# Altium schematic symbol library kmilo17pet-NSC_Switcher.SchLib: 2226 symbols (part 12 of 59)
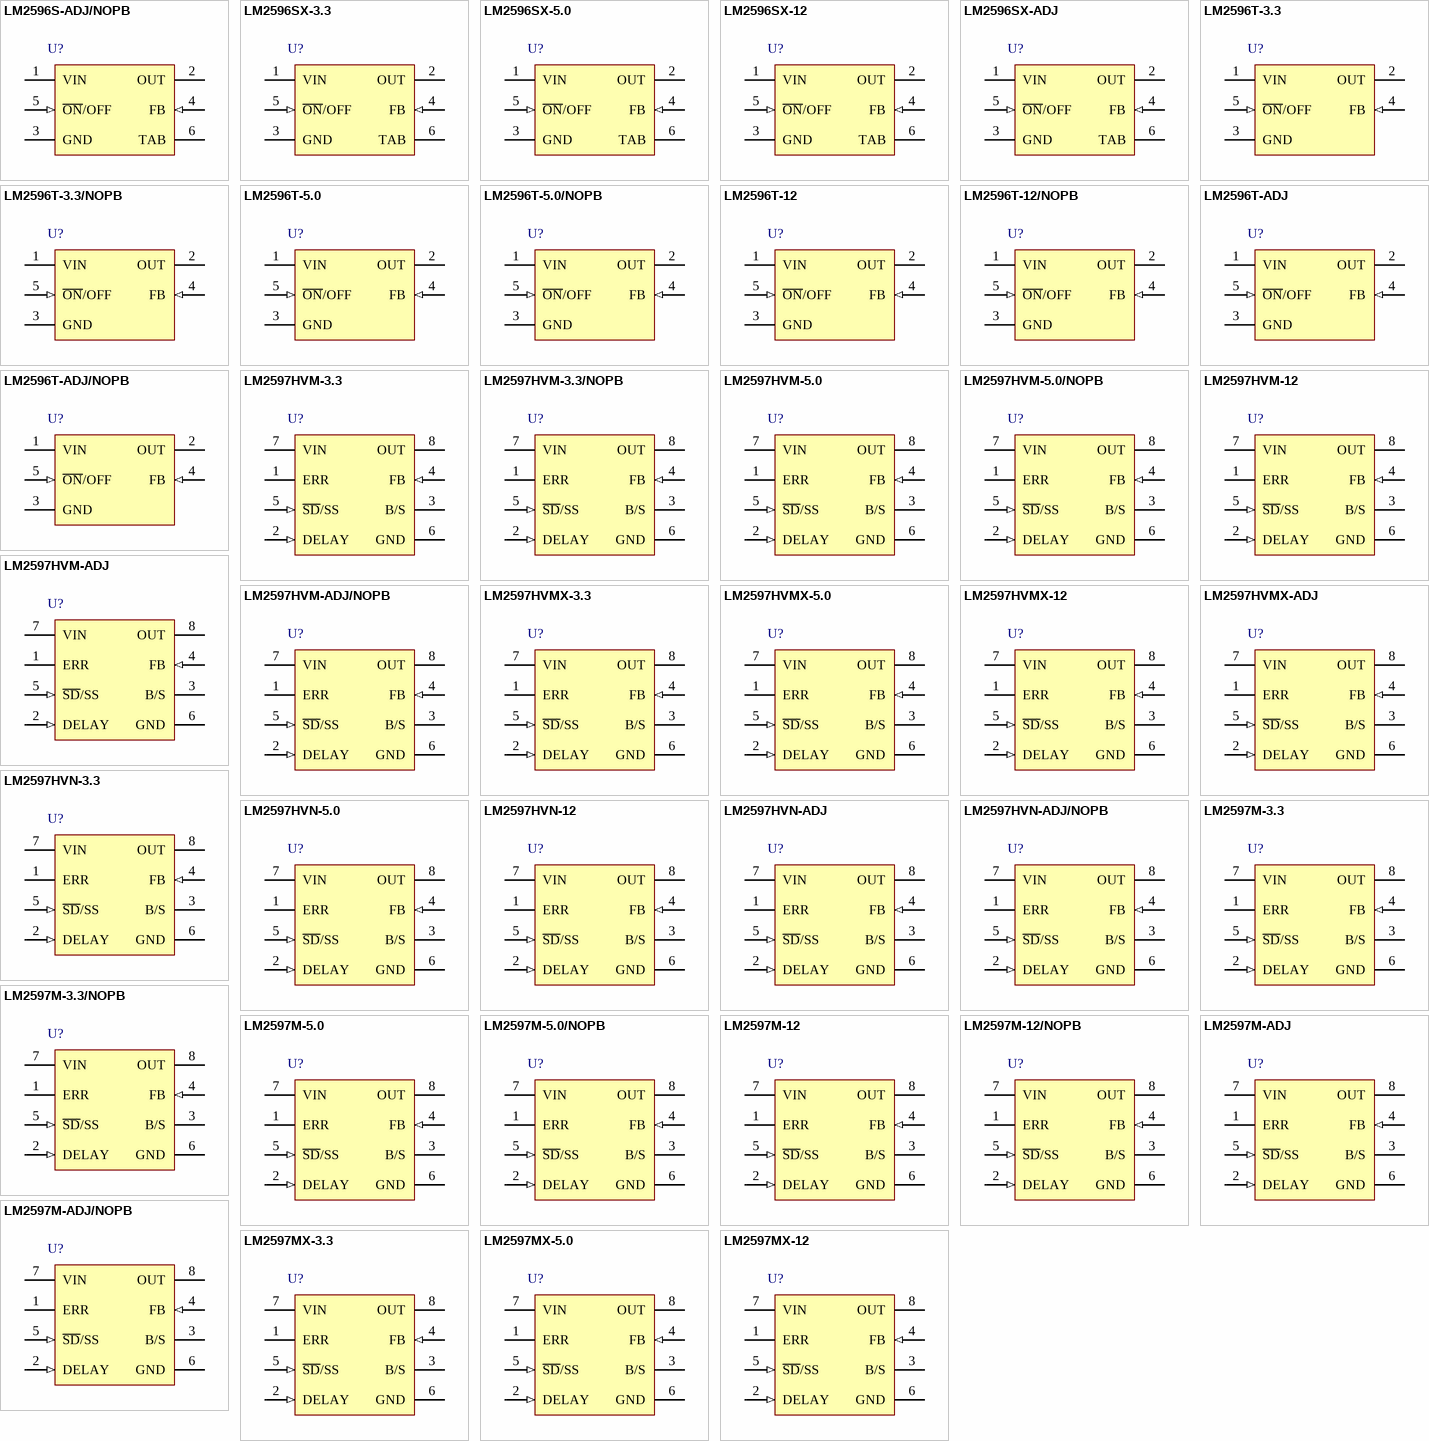
[diagram p80: symbols LM2596S-ADJ/NOPB to LM2597MX-12]

## LM2596SX-5.0
designator U?
SIMPLE SWITCHER® Power Converter 150 KHz 3A Step-Down Voltage Regulator, 5-pin TO-263; PartNumber: LM2596SX-5.0; Manufacturer: National Semiconductor; PackageTopMarking: NSUZXYTTE#*LM2596S*-5.0 P+; PowerWise: N; High-Reliability: Y; DatasheetVersion: May-2002; PackageVersion: revD, Apr-2005; PackageReference: TS5B; PackageDescription: TO-263, Molded, .400 x .390 x .180in, 5 Lead, .067in Pitch, Surface Mount; RoHS: N; PinCount: 5; CompType: Switcher; Code_JEDEC: MO-169-AB; ComponentLink1Description: Manufacturer URL; ComponentLink1URL: http://www.national.com/; ComponentLink2Description: LM2596 Datasheet; ComponentLink2URL: http://www.national.com/ds/LM/LM2596.pdf; ComponentLink3Description: LM2596 Web Page; ComponentLink3URL: http://www.national.com/pf/LM/LM2596.html; ComponentLink4Description: TS5B Package Page; ComponentLink4URL: http://www.national.com/packaging/folders/ts5b.html
footprint TS5B_N (D2-PAK, 6-Leads, Body 8.6x10.2mm, Pitch 1.7mm, Lead Span 14.1mm, IPC Medium Density)
footprint TS5B_L (D2-PAK, 6-Leads, Body 8.6x10.2mm, Pitch 1.7mm, Lead Span 14.1mm, IPC High Density)
footprint TS5B_M (D2-PAK, 6-Leads, Body 8.6x10.2mm, Pitch 1.7mm, Lead Span 14.1mm, IPC Low Density)
pins: 1 VIN (power), 2 OUT (power), 3 GND (power), 4 FB (in), 5 ~{ON}/OFF (in), 6 TAB (power)

## LM2596SX-12
designator U?
SIMPLE SWITCHER® Power Converter 150 KHz 3A Step-Down Voltage Regulator, 5-pin TO-263; PartNumber: LM2596SX-12; Manufacturer: National Semiconductor; PackageTopMarking: NSUZXYTTE#*LM2596S*-12 P+; PowerWise: N; High-Reliability: Y; DatasheetVersion: May-2002; PackageVersion: revD, Apr-2005; PackageReference: TS5B; PackageDescription: TO-263, Molded, .400 x .390 x .180in, 5 Lead, .067in Pitch, Surface Mount; RoHS: N; PinCount: 5; CompType: Switcher; Code_JEDEC: MO-169-AB; ComponentLink1Description: Manufacturer URL; ComponentLink1URL: http://www.national.com/; ComponentLink2Description: LM2596 Datasheet; ComponentLink2URL: http://www.national.com/ds/LM/LM2596.pdf; ComponentLink3Description: LM2596 Web Page; ComponentLink3URL: http://www.national.com/pf/LM/LM2596.html; ComponentLink4Description: TS5B Package Page; ComponentLink4URL: http://www.national.com/packaging/folders/ts5b.html
footprint TS5B_N (D2-PAK, 6-Leads, Body 8.6x10.2mm, Pitch 1.7mm, Lead Span 14.1mm, IPC Medium Density)
footprint TS5B_L (D2-PAK, 6-Leads, Body 8.6x10.2mm, Pitch 1.7mm, Lead Span 14.1mm, IPC High Density)
footprint TS5B_M (D2-PAK, 6-Leads, Body 8.6x10.2mm, Pitch 1.7mm, Lead Span 14.1mm, IPC Low Density)
pins: 1 VIN (power), 2 OUT (power), 3 GND (power), 4 FB (in), 5 ~{ON}/OFF (in), 6 TAB (power)

## LM2596SX-ADJ
designator U?
SIMPLE SWITCHER® Power Converter 150 KHz 3A Step-Down Voltage Regulator, 5-pin TO-263; PartNumber: LM2596SX-ADJ; Manufacturer: National Semiconductor; PackageTopMarking: NSUZXYTTE#*LM2596S*-ADJ P+; PowerWise: N; High-Reliability: Y; DatasheetVersion: May-2002; PackageVersion: revD, Apr-2005; PackageReference: TS5B; PackageDescription: TO-263, Molded, .400 x .390 x .180in, 5 Lead, .067in Pitch, Surface Mount; RoHS: N; PinCount: 5; CompType: Switcher; Code_JEDEC: MO-169-AB; ComponentLink1Description: Manufacturer URL; ComponentLink1URL: http://www.national.com/; ComponentLink2Description: LM2596 Datasheet; ComponentLink2URL: http://www.national.com/ds/LM/LM2596.pdf; ComponentLink3Description: LM2596 Web Page; ComponentLink3URL: http://www.national.com/pf/LM/LM2596.html; ComponentLink4Description: TS5B Package Page; ComponentLink4URL: http://www.national.com/packaging/folders/ts5b.html
footprint TS5B_N (D2-PAK, 6-Leads, Body 8.6x10.2mm, Pitch 1.7mm, Lead Span 14.1mm, IPC Medium Density)
footprint TS5B_L (D2-PAK, 6-Leads, Body 8.6x10.2mm, Pitch 1.7mm, Lead Span 14.1mm, IPC High Density)
footprint TS5B_M (D2-PAK, 6-Leads, Body 8.6x10.2mm, Pitch 1.7mm, Lead Span 14.1mm, IPC Low Density)
pins: 1 VIN (power), 2 OUT (power), 3 GND (power), 4 FB (in), 5 ~{ON}/OFF (in), 6 TAB (power)

## LM2596T-3.3
designator U?
SIMPLE SWITCHER® Power Converter 150 KHz 3A Step-Down Voltage Regulator, 5-pin TO-220; PartNumber: LM2596T-3.3; Manufacturer: National Semiconductor; PackageTopMarking: NSUZXYTTE#*LM2596T*-3.3 P+; PowerWise: N; High-Reliability: Y; DatasheetVersion: May-2002; PackageVersion: revA, Oct-1989; PackageReference: T05D; PackageDescription: TO-220, Molded, Stagger Bend, 5 Lead; RoHS: N; PinCount: 5; CompType: Switcher; ComponentLink1Description: Manufacturer URL; ComponentLink1URL: http://www.national.com/; ComponentLink2Description: LM2596 Datasheet; ComponentLink2URL: http://www.national.com/ds/LM/LM2596.pdf; ComponentLink3Description: LM2596 Web Page; ComponentLink3URL: http://www.national.com/pf/LM/LM2596.html; ComponentLink4Description: T05D Package Page; ComponentLink4URL: http://www.national.com/packaging/folders/t05d.html
footprint T05D (TO, Thru-Hole, Vertical, Heatsink Mounted; 5 Bent Staggered Leads; Body 10.3x8.6x4.6mm, Pitch 1.7 mm)
pins: 1 VIN (power), 2 OUT (power), 3 GND (power), 4 FB (in), 5 ~{ON}/OFF (in)

## LM2596T-3.3/NOPB
designator U?
SIMPLE SWITCHER® Power Converter 150 KHz 3A Step-Down Voltage Regulator, 5-pin TO-220, Pb-Free; PartNumber: LM2596T-3.3/NOPB; Manufacturer: National Semiconductor; PackageTopMarking: NSUZXYTTE#*LM2596T*-3.3 P+; PowerWise: N; High-Reliability: Y; DatasheetVersion: May-2002; PackageVersion: revA, Oct-1989; PackageReference: T05D; PackageDescription: TO-220, Molded, Stagger Bend, 5 Lead; RoHS: Y; PinCount: 5; CompType: Switcher; ComponentLink1Description: Manufacturer URL; ComponentLink1URL: http://www.national.com/; ComponentLink2Description: LM2596 Datasheet; ComponentLink2URL: http://www.national.com/ds/LM/LM2596.pdf; ComponentLink3Description: LM2596 Web Page; ComponentLink3URL: http://www.national.com/pf/LM/LM2596.html; ComponentLink4Description: T05D Package Page; ComponentLink4URL: http://www.national.com/packaging/folders/t05d.html
footprint T05D (TO, Thru-Hole, Vertical, Heatsink Mounted; 5 Bent Staggered Leads; Body 10.3x8.6x4.6mm, Pitch 1.7 mm)
pins: 1 VIN (power), 2 OUT (power), 3 GND (power), 4 FB (in), 5 ~{ON}/OFF (in)

## LM2596T-5.0
designator U?
SIMPLE SWITCHER® Power Converter 150 KHz 3A Step-Down Voltage Regulator, 5-pin TO-220; PartNumber: LM2596T-5.0; Manufacturer: National Semiconductor; PackageTopMarking: NSUZXYTTE#*LM2596T*-5.0 P+; PowerWise: N; High-Reliability: Y; DatasheetVersion: May-2002; PackageVersion: revA, Oct-1989; PackageReference: T05D; PackageDescription: TO-220, Molded, Stagger Bend, 5 Lead; RoHS: N; PinCount: 5; CompType: Switcher; ComponentLink1Description: Manufacturer URL; ComponentLink1URL: http://www.national.com/; ComponentLink2Description: LM2596 Datasheet; ComponentLink2URL: http://www.national.com/ds/LM/LM2596.pdf; ComponentLink3Description: LM2596 Web Page; ComponentLink3URL: http://www.national.com/pf/LM/LM2596.html; ComponentLink4Description: T05D Package Page; ComponentLink4URL: http://www.national.com/packaging/folders/t05d.html
footprint T05D (TO, Thru-Hole, Vertical, Heatsink Mounted; 5 Bent Staggered Leads; Body 10.3x8.6x4.6mm, Pitch 1.7 mm)
pins: 1 VIN (power), 2 OUT (power), 3 GND (power), 4 FB (in), 5 ~{ON}/OFF (in)

## LM2596T-5.0/NOPB
designator U?
SIMPLE SWITCHER® Power Converter 150 KHz 3A Step-Down Voltage Regulator, 5-pin TO-220, Pb-Free; PartNumber: LM2596T-5.0/NOPB; Manufacturer: National Semiconductor; PackageTopMarking: NSUZXYTTE#*LM2596T*-5.0 P+; PowerWise: N; High-Reliability: Y; DatasheetVersion: May-2002; PackageVersion: revA, Oct-1989; PackageReference: T05D; PackageDescription: TO-220, Molded, Stagger Bend, 5 Lead; RoHS: Y; PinCount: 5; CompType: Switcher; ComponentLink1Description: Manufacturer URL; ComponentLink1URL: http://www.national.com/; ComponentLink2Description: LM2596 Datasheet; ComponentLink2URL: http://www.national.com/ds/LM/LM2596.pdf; ComponentLink3Description: LM2596 Web Page; ComponentLink3URL: http://www.national.com/pf/LM/LM2596.html; ComponentLink4Description: T05D Package Page; ComponentLink4URL: http://www.national.com/packaging/folders/t05d.html
footprint T05D (TO, Thru-Hole, Vertical, Heatsink Mounted; 5 Bent Staggered Leads; Body 10.3x8.6x4.6mm, Pitch 1.7 mm)
pins: 1 VIN (power), 2 OUT (power), 3 GND (power), 4 FB (in), 5 ~{ON}/OFF (in)

## LM2596T-12
designator U?
SIMPLE SWITCHER® Power Converter 150 KHz 3A Step-Down Voltage Regulator, 5-pin TO-220; PartNumber: LM2596T-12; Manufacturer: National Semiconductor; PackageTopMarking: NSUZXYTTE#*LM2596T*-12 P+; PowerWise: N; High-Reliability: Y; DatasheetVersion: May-2002; PackageVersion: revA, Oct-1989; PackageReference: T05D; PackageDescription: TO-220, Molded, Stagger Bend, 5 Lead; RoHS: N; PinCount: 5; CompType: Switcher; ComponentLink1Description: Manufacturer URL; ComponentLink1URL: http://www.national.com/; ComponentLink2Description: LM2596 Datasheet; ComponentLink2URL: http://www.national.com/ds/LM/LM2596.pdf; ComponentLink3Description: LM2596 Web Page; ComponentLink3URL: http://www.national.com/pf/LM/LM2596.html; ComponentLink4Description: T05D Package Page; ComponentLink4URL: http://www.national.com/packaging/folders/t05d.html
footprint T05D (TO, Thru-Hole, Vertical, Heatsink Mounted; 5 Bent Staggered Leads; Body 10.3x8.6x4.6mm, Pitch 1.7 mm)
pins: 1 VIN (power), 2 OUT (power), 3 GND (power), 4 FB (in), 5 ~{ON}/OFF (in)

## LM2596T-12/NOPB
designator U?
SIMPLE SWITCHER® Power Converter 150 KHz 3A Step-Down Voltage Regulator, 5-pin TO-220, Pb-Free; PartNumber: LM2596T-12/NOPB; Manufacturer: National Semiconductor; PackageTopMarking: NSUZXYTTE#*LM2596T*-12 P+; PowerWise: N; High-Reliability: Y; DatasheetVersion: May-2002; PackageVersion: revA, Oct-1989; PackageReference: T05D; PackageDescription: TO-220, Molded, Stagger Bend, 5 Lead; RoHS: Y; PinCount: 5; CompType: Switcher; ComponentLink1Description: Manufacturer URL; ComponentLink1URL: http://www.national.com/; ComponentLink2Description: LM2596 Datasheet; ComponentLink2URL: http://www.national.com/ds/LM/LM2596.pdf; ComponentLink3Description: LM2596 Web Page; ComponentLink3URL: http://www.national.com/pf/LM/LM2596.html; ComponentLink4Description: T05D Package Page; ComponentLink4URL: http://www.national.com/packaging/folders/t05d.html
footprint T05D (TO, Thru-Hole, Vertical, Heatsink Mounted; 5 Bent Staggered Leads; Body 10.3x8.6x4.6mm, Pitch 1.7 mm)
pins: 1 VIN (power), 2 OUT (power), 3 GND (power), 4 FB (in), 5 ~{ON}/OFF (in)

## LM2596T-ADJ
designator U?
SIMPLE SWITCHER® Power Converter 150 KHz 3A Step-Down Voltage Regulator, 5-pin TO-220; PartNumber: LM2596T-ADJ; Manufacturer: National Semiconductor; PackageTopMarking: NSUZXYTTE#*LM2596T*-ADJ P+; PowerWise: N; High-Reliability: Y; DatasheetVersion: May-2002; PackageVersion: revA, Oct-1989; PackageReference: T05D; PackageDescription: TO-220, Molded, Stagger Bend, 5 Lead; RoHS: N; PinCount: 5; CompType: Switcher; ComponentLink1Description: Manufacturer URL; ComponentLink1URL: http://www.national.com/; ComponentLink2Description: LM2596 Datasheet; ComponentLink2URL: http://www.national.com/ds/LM/LM2596.pdf; ComponentLink3Description: LM2596 Web Page; ComponentLink3URL: http://www.national.com/pf/LM/LM2596.html; ComponentLink4Description: T05D Package Page; ComponentLink4URL: http://www.national.com/packaging/folders/t05d.html
footprint T05D (TO, Thru-Hole, Vertical, Heatsink Mounted; 5 Bent Staggered Leads; Body 10.3x8.6x4.6mm, Pitch 1.7 mm)
pins: 1 VIN (power), 2 OUT (power), 3 GND (power), 4 FB (in), 5 ~{ON}/OFF (in)

## LM2596T-ADJ/NOPB
designator U?
SIMPLE SWITCHER® Power Converter 150 KHz 3A Step-Down Voltage Regulator, 5-pin TO-220, Pb-Free; PartNumber: LM2596T-ADJ/NOPB; Manufacturer: National Semiconductor; PackageTopMarking: NSUZXYTTE#*LM2596T*-ADJ P+; PowerWise: N; High-Reliability: Y; DatasheetVersion: May-2002; PackageVersion: revA, Oct-1989; PackageReference: T05D; PackageDescription: TO-220, Molded, Stagger Bend, 5 Lead; RoHS: Y; PinCount: 5; CompType: Switcher; ComponentLink1Description: Manufacturer URL; ComponentLink1URL: http://www.national.com/; ComponentLink2Description: LM2596 Datasheet; ComponentLink2URL: http://www.national.com/ds/LM/LM2596.pdf; ComponentLink3Description: LM2596 Web Page; ComponentLink3URL: http://www.national.com/pf/LM/LM2596.html; ComponentLink4Description: T05D Package Page; ComponentLink4URL: http://www.national.com/packaging/folders/t05d.html
footprint T05D (TO, Thru-Hole, Vertical, Heatsink Mounted; 5 Bent Staggered Leads; Body 10.3x8.6x4.6mm, Pitch 1.7 mm)
pins: 1 VIN (power), 2 OUT (power), 3 GND (power), 4 FB (in), 5 ~{ON}/OFF (in)

## LM2597HVM-3.3
designator U?
SIMPLE SWITCHER® Power Converter 150 kHz 0.5A Step-Down Voltage Regulator with Features, 8-pin Narrow SOIC; PartNumber: LM2597HVM-3.3; Manufacturer: National Semiconductor; PackageTopMarking: NSZXTT*2597H*M-3.3; PowerWise: N; High-Reliability: Y; DatasheetVersion: Dec-2000; PackageVersion: revM, May-2009; PackageReference: M08A; PackageDescription: SOIC Narrow, 4.9 x 3.9 x 1.45mm, 8 Lead, 1.27mm Pitch; RoHS: N; PinCount: 8; CompType: Switcher; Code_JEDEC: MS-012-AA; Code_IPC: SOIC127P600-8; ComponentLink1Description: Manufacturer URL; ComponentLink1URL: http://www.national.com/; ComponentLink2Description: LM2597HV Datasheet; ComponentLink2URL: http://www.national.com/ds/LM/LM2597HV.pdf; ComponentLink3Description: LM2597HV Web Page; ComponentLink3URL: http://www.national.com/pf/LM/LM2597HV.html; ComponentLink4Description: M08A Package Page; ComponentLink4URL: http://www.national.com/packaging/folders/m08a.html
footprint M08A_N (SOIC, 8-Leads, Body 4.9x3.9mm, Pitch 1.27mm, IPC Medium Density)
footprint M08A_L (SOIC, 8-Leads, Body 4.9x3.9mm, Pitch 1.27mm, IPC High Density)
footprint M08A_M (SOIC, 8-Leads, Body 4.9x3.9mm, Pitch 1.27mm, IPC Low Density)
pins: 1 ERR (oc), 2 DELAY (in), 3 B/S (power), 4 FB (in), 5 ~{SD}/SS (in), 6 GND (power), 7 VIN (power), 8 OUT (power)

## LM2597HVM-3.3/NOPB
designator U?
SIMPLE SWITCHER® Power Converter 150 kHz 0.5A Step-Down Voltage Regulator with Features, 8-pin Narrow SOIC, Pb-Free; PartNumber: LM2597HVM-3.3/NOPB; Manufacturer: National Semiconductor; PackageTopMarking: NSZXTT*2597H*M-3.3; PowerWise: N; High-Reliability: Y; DatasheetVersion: Dec-2000; PackageVersion: revM, May-2009; PackageReference: M08A; PackageDescription: SOIC Narrow, 4.9 x 3.9 x 1.45mm, 8 Lead, 1.27mm Pitch; RoHS: Y; PinCount: 8; CompType: Switcher; Code_JEDEC: MS-012-AA; Code_IPC: SOIC127P600-8; ComponentLink1Description: Manufacturer URL; ComponentLink1URL: http://www.national.com/; ComponentLink2Description: LM2597HV Datasheet; ComponentLink2URL: http://www.national.com/ds/LM/LM2597HV.pdf; ComponentLink3Description: LM2597HV Web Page; ComponentLink3URL: http://www.national.com/pf/LM/LM2597HV.html; ComponentLink4Description: M08A Package Page; ComponentLink4URL: http://www.national.com/packaging/folders/m08a.html
footprint M08A_N (SOIC, 8-Leads, Body 4.9x3.9mm, Pitch 1.27mm, IPC Medium Density)
footprint M08A_L (SOIC, 8-Leads, Body 4.9x3.9mm, Pitch 1.27mm, IPC High Density)
footprint M08A_M (SOIC, 8-Leads, Body 4.9x3.9mm, Pitch 1.27mm, IPC Low Density)
pins: 1 ERR (oc), 2 DELAY (in), 3 B/S (power), 4 FB (in), 5 ~{SD}/SS (in), 6 GND (power), 7 VIN (power), 8 OUT (power)

## LM2597HVM-5.0
designator U?
SIMPLE SWITCHER® Power Converter 150 kHz 0.5A Step-Down Voltage Regulator with Features, 8-pin Narrow SOIC; PartNumber: LM2597HVM-5.0; Manufacturer: National Semiconductor; PackageTopMarking: NSZXTT*2597H*M-5.0; PowerWise: N; High-Reliability: Y; DatasheetVersion: Dec-2000; PackageVersion: revM, May-2009; PackageReference: M08A; PackageDescription: SOIC Narrow, 4.9 x 3.9 x 1.45mm, 8 Lead, 1.27mm Pitch; RoHS: N; PinCount: 8; CompType: Switcher; Code_JEDEC: MS-012-AA; Code_IPC: SOIC127P600-8; ComponentLink1Description: Manufacturer URL; ComponentLink1URL: http://www.national.com/; ComponentLink2Description: LM2597HV Datasheet; ComponentLink2URL: http://www.national.com/ds/LM/LM2597HV.pdf; ComponentLink3Description: LM2597HV Web Page; ComponentLink3URL: http://www.national.com/pf/LM/LM2597HV.html; ComponentLink4Description: M08A Package Page; ComponentLink4URL: http://www.national.com/packaging/folders/m08a.html
footprint M08A_N (SOIC, 8-Leads, Body 4.9x3.9mm, Pitch 1.27mm, IPC Medium Density)
footprint M08A_L (SOIC, 8-Leads, Body 4.9x3.9mm, Pitch 1.27mm, IPC High Density)
footprint M08A_M (SOIC, 8-Leads, Body 4.9x3.9mm, Pitch 1.27mm, IPC Low Density)
pins: 1 ERR (oc), 2 DELAY (in), 3 B/S (power), 4 FB (in), 5 ~{SD}/SS (in), 6 GND (power), 7 VIN (power), 8 OUT (power)

## LM2597HVM-5.0/NOPB
designator U?
SIMPLE SWITCHER® Power Converter 150 kHz 0.5A Step-Down Voltage Regulator with Features, 8-pin Narrow SOIC, Pb-Free; PartNumber: LM2597HVM-5.0/NOPB; Manufacturer: National Semiconductor; PackageTopMarking: NSZXTT*2597H*M-5.0; PowerWise: N; High-Reliability: Y; DatasheetVersion: Dec-2000; PackageVersion: revM, May-2009; PackageReference: M08A; PackageDescription: SOIC Narrow, 4.9 x 3.9 x 1.45mm, 8 Lead, 1.27mm Pitch; RoHS: Y; PinCount: 8; CompType: Switcher; Code_JEDEC: MS-012-AA; Code_IPC: SOIC127P600-8; ComponentLink1Description: Manufacturer URL; ComponentLink1URL: http://www.national.com/; ComponentLink2Description: LM2597HV Datasheet; ComponentLink2URL: http://www.national.com/ds/LM/LM2597HV.pdf; ComponentLink3Description: LM2597HV Web Page; ComponentLink3URL: http://www.national.com/pf/LM/LM2597HV.html; ComponentLink4Description: M08A Package Page; ComponentLink4URL: http://www.national.com/packaging/folders/m08a.html
footprint M08A_N (SOIC, 8-Leads, Body 4.9x3.9mm, Pitch 1.27mm, IPC Medium Density)
footprint M08A_L (SOIC, 8-Leads, Body 4.9x3.9mm, Pitch 1.27mm, IPC High Density)
footprint M08A_M (SOIC, 8-Leads, Body 4.9x3.9mm, Pitch 1.27mm, IPC Low Density)
pins: 1 ERR (oc), 2 DELAY (in), 3 B/S (power), 4 FB (in), 5 ~{SD}/SS (in), 6 GND (power), 7 VIN (power), 8 OUT (power)

## LM2597HVM-12
designator U?
SIMPLE SWITCHER® Power Converter 150 kHz 0.5A Step-Down Voltage Regulator with Features, 8-pin Narrow SOIC; PartNumber: LM2597HVM-12; Manufacturer: National Semiconductor; PackageTopMarking: NSZXTT*2597H*M-12; PowerWise: N; High-Reliability: Y; DatasheetVersion: Dec-2000; PackageVersion: revM, May-2009; PackageReference: M08A; PackageDescription: SOIC Narrow, 4.9 x 3.9 x 1.45mm, 8 Lead, 1.27mm Pitch; RoHS: N; PinCount: 8; CompType: Switcher; Code_JEDEC: MS-012-AA; Code_IPC: SOIC127P600-8; ComponentLink1Description: Manufacturer URL; ComponentLink1URL: http://www.national.com/; ComponentLink2Description: LM2597HV Datasheet; ComponentLink2URL: http://www.national.com/ds/LM/LM2597HV.pdf; ComponentLink3Description: LM2597HV Web Page; ComponentLink3URL: http://www.national.com/pf/LM/LM2597HV.html; ComponentLink4Description: M08A Package Page; ComponentLink4URL: http://www.national.com/packaging/folders/m08a.html
footprint M08A_N (SOIC, 8-Leads, Body 4.9x3.9mm, Pitch 1.27mm, IPC Medium Density)
footprint M08A_L (SOIC, 8-Leads, Body 4.9x3.9mm, Pitch 1.27mm, IPC High Density)
footprint M08A_M (SOIC, 8-Leads, Body 4.9x3.9mm, Pitch 1.27mm, IPC Low Density)
pins: 1 ERR (oc), 2 DELAY (in), 3 B/S (power), 4 FB (in), 5 ~{SD}/SS (in), 6 GND (power), 7 VIN (power), 8 OUT (power)

## LM2597HVM-ADJ
designator U?
SIMPLE SWITCHER® Power Converter 150 kHz 0.5A Step-Down Voltage Regulator with Features, 8-pin Narrow SOIC; PartNumber: LM2597HVM-ADJ; Manufacturer: National Semiconductor; PackageTopMarking: NSZXTT*2597H*M-ADJ; PowerWise: N; High-Reliability: Y; DatasheetVersion: Dec-2000; PackageVersion: revM, May-2009; PackageReference: M08A; PackageDescription: SOIC Narrow, 4.9 x 3.9 x 1.45mm, 8 Lead, 1.27mm Pitch; RoHS: N; PinCount: 8; CompType: Switcher; Code_JEDEC: MS-012-AA; Code_IPC: SOIC127P600-8; ComponentLink1Description: Manufacturer URL; ComponentLink1URL: http://www.national.com/; ComponentLink2Description: LM2597HV Datasheet; ComponentLink2URL: http://www.national.com/ds/LM/LM2597HV.pdf; ComponentLink3Description: LM2597HV Web Page; ComponentLink3URL: http://www.national.com/pf/LM/LM2597HV.html; ComponentLink4Description: M08A Package Page; ComponentLink4URL: http://www.national.com/packaging/folders/m08a.html
footprint M08A_N (SOIC, 8-Leads, Body 4.9x3.9mm, Pitch 1.27mm, IPC Medium Density)
footprint M08A_L (SOIC, 8-Leads, Body 4.9x3.9mm, Pitch 1.27mm, IPC High Density)
footprint M08A_M (SOIC, 8-Leads, Body 4.9x3.9mm, Pitch 1.27mm, IPC Low Density)
pins: 1 ERR (oc), 2 DELAY (in), 3 B/S (power), 4 FB (in), 5 ~{SD}/SS (in), 6 GND (power), 7 VIN (power), 8 OUT (power)

## LM2597HVM-ADJ/NOPB
designator U?
SIMPLE SWITCHER® Power Converter 150 kHz 0.5A Step-Down Voltage Regulator with Features, 8-pin Narrow SOIC, Pb-Free; PartNumber: LM2597HVM-ADJ/NOPB; Manufacturer: National Semiconductor; PackageTopMarking: NSZXTT*2597H*M-ADJ; PowerWise: N; High-Reliability: Y; DatasheetVersion: Dec-2000; PackageVersion: revM, May-2009; PackageReference: M08A; PackageDescription: SOIC Narrow, 4.9 x 3.9 x 1.45mm, 8 Lead, 1.27mm Pitch; RoHS: Y; PinCount: 8; CompType: Switcher; Code_JEDEC: MS-012-AA; Code_IPC: SOIC127P600-8; ComponentLink1Description: Manufacturer URL; ComponentLink1URL: http://www.national.com/; ComponentLink2Description: LM2597HV Datasheet; ComponentLink2URL: http://www.national.com/ds/LM/LM2597HV.pdf; ComponentLink3Description: LM2597HV Web Page; ComponentLink3URL: http://www.national.com/pf/LM/LM2597HV.html; ComponentLink4Description: M08A Package Page; ComponentLink4URL: http://www.national.com/packaging/folders/m08a.html
footprint M08A_N (SOIC, 8-Leads, Body 4.9x3.9mm, Pitch 1.27mm, IPC Medium Density)
footprint M08A_L (SOIC, 8-Leads, Body 4.9x3.9mm, Pitch 1.27mm, IPC High Density)
footprint M08A_M (SOIC, 8-Leads, Body 4.9x3.9mm, Pitch 1.27mm, IPC Low Density)
pins: 1 ERR (oc), 2 DELAY (in), 3 B/S (power), 4 FB (in), 5 ~{SD}/SS (in), 6 GND (power), 7 VIN (power), 8 OUT (power)

## LM2597HVMX-3.3
designator U?
SIMPLE SWITCHER® Power Converter 150 kHz 0.5A Step-Down Voltage Regulator with Features, 8-pin Narrow SOIC; PartNumber: LM2597HVMX-3.3; Manufacturer: National Semiconductor; PackageTopMarking: NSZXTT*2597H*M-3.3; PowerWise: N; High-Reliability: Y; DatasheetVersion: Dec-2000; PackageVersion: revM, May-2009; PackageReference: M08A; PackageDescription: SOIC Narrow, 4.9 x 3.9 x 1.45mm, 8 Lead, 1.27mm Pitch; RoHS: N; PinCount: 8; CompType: Switcher; Code_JEDEC: MS-012-AA; Code_IPC: SOIC127P600-8; ComponentLink1Description: Manufacturer URL; ComponentLink1URL: http://www.national.com/; ComponentLink2Description: LM2597HV Datasheet; ComponentLink2URL: http://www.national.com/ds/LM/LM2597HV.pdf; ComponentLink3Description: LM2597HV Web Page; ComponentLink3URL: http://www.national.com/pf/LM/LM2597HV.html; ComponentLink4Description: M08A Package Page; ComponentLink4URL: http://www.national.com/packaging/folders/m08a.html
footprint M08A_N (SOIC, 8-Leads, Body 4.9x3.9mm, Pitch 1.27mm, IPC Medium Density)
footprint M08A_L (SOIC, 8-Leads, Body 4.9x3.9mm, Pitch 1.27mm, IPC High Density)
footprint M08A_M (SOIC, 8-Leads, Body 4.9x3.9mm, Pitch 1.27mm, IPC Low Density)
pins: 1 ERR (oc), 2 DELAY (in), 3 B/S (power), 4 FB (in), 5 ~{SD}/SS (in), 6 GND (power), 7 VIN (power), 8 OUT (power)

## LM2597HVMX-5.0
designator U?
SIMPLE SWITCHER® Power Converter 150 kHz 0.5A Step-Down Voltage Regulator with Features, 8-pin Narrow SOIC; PartNumber: LM2597HVMX-5.0; Manufacturer: National Semiconductor; PackageTopMarking: NSZXTT*2597H*M-5.0; PowerWise: N; High-Reliability: Y; DatasheetVersion: Dec-2000; PackageVersion: revM, May-2009; PackageReference: M08A; PackageDescription: SOIC Narrow, 4.9 x 3.9 x 1.45mm, 8 Lead, 1.27mm Pitch; RoHS: N; PinCount: 8; CompType: Switcher; Code_JEDEC: MS-012-AA; Code_IPC: SOIC127P600-8; ComponentLink1Description: Manufacturer URL; ComponentLink1URL: http://www.national.com/; ComponentLink2Description: LM2597HV Datasheet; ComponentLink2URL: http://www.national.com/ds/LM/LM2597HV.pdf; ComponentLink3Description: LM2597HV Web Page; ComponentLink3URL: http://www.national.com/pf/LM/LM2597HV.html; ComponentLink4Description: M08A Package Page; ComponentLink4URL: http://www.national.com/packaging/folders/m08a.html
footprint M08A_N (SOIC, 8-Leads, Body 4.9x3.9mm, Pitch 1.27mm, IPC Medium Density)
footprint M08A_L (SOIC, 8-Leads, Body 4.9x3.9mm, Pitch 1.27mm, IPC High Density)
footprint M08A_M (SOIC, 8-Leads, Body 4.9x3.9mm, Pitch 1.27mm, IPC Low Density)
pins: 1 ERR (oc), 2 DELAY (in), 3 B/S (power), 4 FB (in), 5 ~{SD}/SS (in), 6 GND (power), 7 VIN (power), 8 OUT (power)

## LM2597HVMX-12
designator U?
SIMPLE SWITCHER® Power Converter 150 kHz 0.5A Step-Down Voltage Regulator with Features, 8-pin Narrow SOIC; PartNumber: LM2597HVMX-12; Manufacturer: National Semiconductor; PackageTopMarking: NSZXTT*2597H*M-12; PowerWise: N; High-Reliability: Y; DatasheetVersion: Dec-2000; PackageVersion: revM, May-2009; PackageReference: M08A; PackageDescription: SOIC Narrow, 4.9 x 3.9 x 1.45mm, 8 Lead, 1.27mm Pitch; RoHS: N; PinCount: 8; CompType: Switcher; Code_JEDEC: MS-012-AA; Code_IPC: SOIC127P600-8; ComponentLink1Description: Manufacturer URL; ComponentLink1URL: http://www.national.com/; ComponentLink2Description: LM2597HV Datasheet; ComponentLink2URL: http://www.national.com/ds/LM/LM2597HV.pdf; ComponentLink3Description: LM2597HV Web Page; ComponentLink3URL: http://www.national.com/pf/LM/LM2597HV.html; ComponentLink4Description: M08A Package Page; ComponentLink4URL: http://www.national.com/packaging/folders/m08a.html
footprint M08A_N (SOIC, 8-Leads, Body 4.9x3.9mm, Pitch 1.27mm, IPC Medium Density)
footprint M08A_L (SOIC, 8-Leads, Body 4.9x3.9mm, Pitch 1.27mm, IPC High Density)
footprint M08A_M (SOIC, 8-Leads, Body 4.9x3.9mm, Pitch 1.27mm, IPC Low Density)
pins: 1 ERR (oc), 2 DELAY (in), 3 B/S (power), 4 FB (in), 5 ~{SD}/SS (in), 6 GND (power), 7 VIN (power), 8 OUT (power)

## LM2597HVMX-ADJ
designator U?
SIMPLE SWITCHER® Power Converter 150 kHz 0.5A Step-Down Voltage Regulator with Features, 8-pin Narrow SOIC; PartNumber: LM2597HVMX-ADJ; Manufacturer: National Semiconductor; PackageTopMarking: NSZXTT*2597H*M-ADJ; PowerWise: N; High-Reliability: Y; DatasheetVersion: Dec-2000; PackageVersion: revM, May-2009; PackageReference: M08A; PackageDescription: SOIC Narrow, 4.9 x 3.9 x 1.45mm, 8 Lead, 1.27mm Pitch; RoHS: N; PinCount: 8; CompType: Switcher; Code_JEDEC: MS-012-AA; Code_IPC: SOIC127P600-8; ComponentLink1Description: Manufacturer URL; ComponentLink1URL: http://www.national.com/; ComponentLink2Description: LM2597HV Datasheet; ComponentLink2URL: http://www.national.com/ds/LM/LM2597HV.pdf; ComponentLink3Description: LM2597HV Web Page; ComponentLink3URL: http://www.national.com/pf/LM/LM2597HV.html; ComponentLink4Description: M08A Package Page; ComponentLink4URL: http://www.national.com/packaging/folders/m08a.html
footprint M08A_N (SOIC, 8-Leads, Body 4.9x3.9mm, Pitch 1.27mm, IPC Medium Density)
footprint M08A_L (SOIC, 8-Leads, Body 4.9x3.9mm, Pitch 1.27mm, IPC High Density)
footprint M08A_M (SOIC, 8-Leads, Body 4.9x3.9mm, Pitch 1.27mm, IPC Low Density)
pins: 1 ERR (oc), 2 DELAY (in), 3 B/S (power), 4 FB (in), 5 ~{SD}/SS (in), 6 GND (power), 7 VIN (power), 8 OUT (power)

## LM2597HVN-3.3
designator U?
SIMPLE SWITCHER® Power Converter 150 kHz 0.5A Step-Down Voltage Regulator with Features, 8-pin MDIP; PartNumber: LM2597HVN-3.3; Manufacturer: National Semiconductor; PackageTopMarking: NSUZXYTTE#*LM2597HV*N-3.3 P+; PowerWise: N; High-Reliability: Y; DatasheetVersion: Dec-2000; PackageVersion: revG, May-2006; PackageReference: N08E; PackageDescription: MDIP, .365 x .250 x .130in, 8 Lead, .100in Pitch; RoHS: N; PinCount: 8; CompType: Switcher; Code_JEDEC: MS-001-BA; ComponentLink1Description: Manufacturer URL; ComponentLink1URL: http://www.national.com/; ComponentLink2Description: LM2597HV Datasheet; ComponentLink2URL: http://www.national.com/ds/LM/LM2597HV.pdf; ComponentLink3Description: LM2597HV Web Page; ComponentLink3URL: http://www.national.com/pf/LM/LM2597HV.html; ComponentLink4Description: N08E Package Page; ComponentLink4URL: http://www.national.com/packaging/folders/n08e.html
footprint N08E (DIP, 8-Leads, Row Spacing 7.62mm, Pitch 2.54mm, Body 9.91x6.35mm)
pins: 1 ERR (oc), 2 DELAY (in), 3 B/S (power), 4 FB (in), 5 ~{SD}/SS (in), 6 GND (power), 7 VIN (power), 8 OUT (power)

## LM2597HVN-5.0
designator U?
SIMPLE SWITCHER® Power Converter 150 kHz 0.5A Step-Down Voltage Regulator with Features, 8-pin MDIP; PartNumber: LM2597HVN-5.0; Manufacturer: National Semiconductor; PackageTopMarking: NSUZXYTTE#*LM2597HV*N-5.0 P+; PowerWise: N; High-Reliability: Y; DatasheetVersion: Dec-2000; PackageVersion: revG, May-2006; PackageReference: N08E; PackageDescription: MDIP, .365 x .250 x .130in, 8 Lead, .100in Pitch; RoHS: N; PinCount: 8; CompType: Switcher; Code_JEDEC: MS-001-BA; ComponentLink1Description: Manufacturer URL; ComponentLink1URL: http://www.national.com/; ComponentLink2Description: LM2597HV Datasheet; ComponentLink2URL: http://www.national.com/ds/LM/LM2597HV.pdf; ComponentLink3Description: LM2597HV Web Page; ComponentLink3URL: http://www.national.com/pf/LM/LM2597HV.html; ComponentLink4Description: N08E Package Page; ComponentLink4URL: http://www.national.com/packaging/folders/n08e.html
footprint N08E (DIP, 8-Leads, Row Spacing 7.62mm, Pitch 2.54mm, Body 9.91x6.35mm)
pins: 1 ERR (oc), 2 DELAY (in), 3 B/S (power), 4 FB (in), 5 ~{SD}/SS (in), 6 GND (power), 7 VIN (power), 8 OUT (power)

## LM2597HVN-12
designator U?
SIMPLE SWITCHER® Power Converter 150 kHz 0.5A Step-Down Voltage Regulator with Features, 8-pin MDIP; PartNumber: LM2597HVN-12; Manufacturer: National Semiconductor; PackageTopMarking: NSUZXYTTE#*LM2597HV*N-12 P+; PowerWise: N; High-Reliability: Y; DatasheetVersion: Dec-2000; PackageVersion: revG, May-2006; PackageReference: N08E; PackageDescription: MDIP, .365 x .250 x .130in, 8 Lead, .100in Pitch; RoHS: N; PinCount: 8; CompType: Switcher; Code_JEDEC: MS-001-BA; ComponentLink1Description: Manufacturer URL; ComponentLink1URL: http://www.national.com/; ComponentLink2Description: LM2597HV Datasheet; ComponentLink2URL: http://www.national.com/ds/LM/LM2597HV.pdf; ComponentLink3Description: LM2597HV Web Page; ComponentLink3URL: http://www.national.com/pf/LM/LM2597HV.html; ComponentLink4Description: N08E Package Page; ComponentLink4URL: http://www.national.com/packaging/folders/n08e.html
footprint N08E (DIP, 8-Leads, Row Spacing 7.62mm, Pitch 2.54mm, Body 9.91x6.35mm)
pins: 1 ERR (oc), 2 DELAY (in), 3 B/S (power), 4 FB (in), 5 ~{SD}/SS (in), 6 GND (power), 7 VIN (power), 8 OUT (power)

## LM2597HVN-ADJ
designator U?
SIMPLE SWITCHER® Power Converter 150 kHz 0.5A Step-Down Voltage Regulator with Features, 8-pin MDIP; PartNumber: LM2597HVN-ADJ; Manufacturer: National Semiconductor; PackageTopMarking: NSUZXYTTE#*LM2597HV*N-ADJ P+; PowerWise: N; High-Reliability: Y; DatasheetVersion: Dec-2000; PackageVersion: revG, May-2006; PackageReference: N08E; PackageDescription: MDIP, .365 x .250 x .130in, 8 Lead, .100in Pitch; RoHS: N; PinCount: 8; CompType: Switcher; Code_JEDEC: MS-001-BA; ComponentLink1Description: Manufacturer URL; ComponentLink1URL: http://www.national.com/; ComponentLink2Description: LM2597HV Datasheet; ComponentLink2URL: http://www.national.com/ds/LM/LM2597HV.pdf; ComponentLink3Description: LM2597HV Web Page; ComponentLink3URL: http://www.national.com/pf/LM/LM2597HV.html; ComponentLink4Description: N08E Package Page; ComponentLink4URL: http://www.national.com/packaging/folders/n08e.html
footprint N08E (DIP, 8-Leads, Row Spacing 7.62mm, Pitch 2.54mm, Body 9.91x6.35mm)
pins: 1 ERR (oc), 2 DELAY (in), 3 B/S (power), 4 FB (in), 5 ~{SD}/SS (in), 6 GND (power), 7 VIN (power), 8 OUT (power)

## LM2597HVN-ADJ/NOPB
designator U?
SIMPLE SWITCHER® Power Converter 150 kHz 0.5A Step-Down Voltage Regulator with Features, 8-pin MDIP, Pb-Free; PartNumber: LM2597HVN-ADJ/NOPB; Manufacturer: National Semiconductor; PackageTopMarking: NSUZXYTTE#*LM2597HV*N-ADJ P+; PowerWise: N; High-Reliability: Y; DatasheetVersion: Dec-2000; PackageVersion: revG, May-2006; PackageReference: N08E; PackageDescription: MDIP, .365 x .250 x .130in, 8 Lead, .100in Pitch; RoHS: Y; PinCount: 8; CompType: Switcher; Code_JEDEC: MS-001-BA; ComponentLink1Description: Manufacturer URL; ComponentLink1URL: http://www.national.com/; ComponentLink2Description: LM2597HV Datasheet; ComponentLink2URL: http://www.national.com/ds/LM/LM2597HV.pdf; ComponentLink3Description: LM2597HV Web Page; ComponentLink3URL: http://www.national.com/pf/LM/LM2597HV.html; ComponentLink4Description: N08E Package Page; ComponentLink4URL: http://www.national.com/packaging/folders/n08e.html
footprint N08E (DIP, 8-Leads, Row Spacing 7.62mm, Pitch 2.54mm, Body 9.91x6.35mm)
pins: 1 ERR (oc), 2 DELAY (in), 3 B/S (power), 4 FB (in), 5 ~{SD}/SS (in), 6 GND (power), 7 VIN (power), 8 OUT (power)

## LM2597M-3.3
designator U?
SIMPLE SWITCHER® Power Converter 150 kHz 0.5A Step-Down Voltage Regulator, 8-pin Narrow SOIC; PartNumber: LM2597M-3.3; Manufacturer: National Semiconductor; PackageTopMarking: NSZXTT*2597*M-3.3; PowerWise: N; High-Reliability: Y; DatasheetVersion: Dec-2000; PackageVersion: revM, May-2009; PackageReference: M08A; PackageDescription: SOIC Narrow, 4.9 x 3.9 x 1.45mm, 8 Lead, 1.27mm Pitch; RoHS: N; PinCount: 8; CompType: Switcher; Code_JEDEC: MS-012-AA; Code_IPC: SOIC127P600-8; ComponentLink1Description: Manufacturer URL; ComponentLink1URL: http://www.national.com/; ComponentLink2Description: LM2597 Datasheet; ComponentLink2URL: http://www.national.com/ds/LM/LM2597.pdf; ComponentLink3Description: LM2597 Web Page; ComponentLink3URL: http://www.national.com/pf/LM/LM2597.html; ComponentLink4Description: M08A Package Page; ComponentLink4URL: http://www.national.com/packaging/folders/m08a.html
footprint M08A_N (SOIC, 8-Leads, Body 4.9x3.9mm, Pitch 1.27mm, IPC Medium Density)
footprint M08A_L (SOIC, 8-Leads, Body 4.9x3.9mm, Pitch 1.27mm, IPC High Density)
footprint M08A_M (SOIC, 8-Leads, Body 4.9x3.9mm, Pitch 1.27mm, IPC Low Density)
pins: 1 ERR (oc), 2 DELAY (in), 3 B/S (power), 4 FB (in), 5 ~{SD}/SS (in), 6 GND (power), 7 VIN (power), 8 OUT (power)

## LM2597M-3.3/NOPB
designator U?
SIMPLE SWITCHER® Power Converter 150 kHz 0.5A Step-Down Voltage Regulator, 8-pin Narrow SOIC, Pb-Free; PartNumber: LM2597M-3.3/NOPB; Manufacturer: National Semiconductor; PackageTopMarking: NSZXTT*2597*M-3.3; PowerWise: N; High-Reliability: Y; DatasheetVersion: Dec-2000; PackageVersion: revM, May-2009; PackageReference: M08A; PackageDescription: SOIC Narrow, 4.9 x 3.9 x 1.45mm, 8 Lead, 1.27mm Pitch; RoHS: Y; PinCount: 8; CompType: Switcher; Code_JEDEC: MS-012-AA; Code_IPC: SOIC127P600-8; ComponentLink1Description: Manufacturer URL; ComponentLink1URL: http://www.national.com/; ComponentLink2Description: LM2597 Datasheet; ComponentLink2URL: http://www.national.com/ds/LM/LM2597.pdf; ComponentLink3Description: LM2597 Web Page; ComponentLink3URL: http://www.national.com/pf/LM/LM2597.html; ComponentLink4Description: M08A Package Page; ComponentLink4URL: http://www.national.com/packaging/folders/m08a.html
footprint M08A_N (SOIC, 8-Leads, Body 4.9x3.9mm, Pitch 1.27mm, IPC Medium Density)
footprint M08A_L (SOIC, 8-Leads, Body 4.9x3.9mm, Pitch 1.27mm, IPC High Density)
footprint M08A_M (SOIC, 8-Leads, Body 4.9x3.9mm, Pitch 1.27mm, IPC Low Density)
pins: 1 ERR (oc), 2 DELAY (in), 3 B/S (power), 4 FB (in), 5 ~{SD}/SS (in), 6 GND (power), 7 VIN (power), 8 OUT (power)

## LM2597M-5.0
designator U?
SIMPLE SWITCHER® Power Converter 150 kHz 0.5A Step-Down Voltage Regulator, 8-pin Narrow SOIC; PartNumber: LM2597M-5.0; Manufacturer: National Semiconductor; PackageTopMarking: NSZXTT*2597*M-5.0; PowerWise: N; High-Reliability: Y; DatasheetVersion: Dec-2000; PackageVersion: revM, May-2009; PackageReference: M08A; PackageDescription: SOIC Narrow, 4.9 x 3.9 x 1.45mm, 8 Lead, 1.27mm Pitch; RoHS: N; PinCount: 8; CompType: Switcher; Code_JEDEC: MS-012-AA; Code_IPC: SOIC127P600-8; ComponentLink1Description: Manufacturer URL; ComponentLink1URL: http://www.national.com/; ComponentLink2Description: LM2597 Datasheet; ComponentLink2URL: http://www.national.com/ds/LM/LM2597.pdf; ComponentLink3Description: LM2597 Web Page; ComponentLink3URL: http://www.national.com/pf/LM/LM2597.html; ComponentLink4Description: M08A Package Page; ComponentLink4URL: http://www.national.com/packaging/folders/m08a.html
footprint M08A_N (SOIC, 8-Leads, Body 4.9x3.9mm, Pitch 1.27mm, IPC Medium Density)
footprint M08A_L (SOIC, 8-Leads, Body 4.9x3.9mm, Pitch 1.27mm, IPC High Density)
footprint M08A_M (SOIC, 8-Leads, Body 4.9x3.9mm, Pitch 1.27mm, IPC Low Density)
pins: 1 ERR (oc), 2 DELAY (in), 3 B/S (power), 4 FB (in), 5 ~{SD}/SS (in), 6 GND (power), 7 VIN (power), 8 OUT (power)

## LM2597M-5.0/NOPB
designator U?
SIMPLE SWITCHER® Power Converter 150 kHz 0.5A Step-Down Voltage Regulator, 8-pin Narrow SOIC, Pb-Free; PartNumber: LM2597M-5.0/NOPB; Manufacturer: National Semiconductor; PackageTopMarking: NSZXTT*2597*M-5.0; PowerWise: N; High-Reliability: Y; DatasheetVersion: Dec-2000; PackageVersion: revM, May-2009; PackageReference: M08A; PackageDescription: SOIC Narrow, 4.9 x 3.9 x 1.45mm, 8 Lead, 1.27mm Pitch; RoHS: Y; PinCount: 8; CompType: Switcher; Code_JEDEC: MS-012-AA; Code_IPC: SOIC127P600-8; ComponentLink1Description: Manufacturer URL; ComponentLink1URL: http://www.national.com/; ComponentLink2Description: LM2597 Datasheet; ComponentLink2URL: http://www.national.com/ds/LM/LM2597.pdf; ComponentLink3Description: LM2597 Web Page; ComponentLink3URL: http://www.national.com/pf/LM/LM2597.html; ComponentLink4Description: M08A Package Page; ComponentLink4URL: http://www.national.com/packaging/folders/m08a.html
footprint M08A_N (SOIC, 8-Leads, Body 4.9x3.9mm, Pitch 1.27mm, IPC Medium Density)
footprint M08A_L (SOIC, 8-Leads, Body 4.9x3.9mm, Pitch 1.27mm, IPC High Density)
footprint M08A_M (SOIC, 8-Leads, Body 4.9x3.9mm, Pitch 1.27mm, IPC Low Density)
pins: 1 ERR (oc), 2 DELAY (in), 3 B/S (power), 4 FB (in), 5 ~{SD}/SS (in), 6 GND (power), 7 VIN (power), 8 OUT (power)

## LM2597M-12
designator U?
SIMPLE SWITCHER® Power Converter 150 kHz 0.5A Step-Down Voltage Regulator, 8-pin Narrow SOIC; PartNumber: LM2597M-12; Manufacturer: National Semiconductor; PackageTopMarking: NSZXTT*2597*M-12; PowerWise: N; High-Reliability: Y; DatasheetVersion: Dec-2000; PackageVersion: revM, May-2009; PackageReference: M08A; PackageDescription: SOIC Narrow, 4.9 x 3.9 x 1.45mm, 8 Lead, 1.27mm Pitch; RoHS: N; PinCount: 8; CompType: Switcher; Code_JEDEC: MS-012-AA; Code_IPC: SOIC127P600-8; ComponentLink1Description: Manufacturer URL; ComponentLink1URL: http://www.national.com/; ComponentLink2Description: LM2597 Datasheet; ComponentLink2URL: http://www.national.com/ds/LM/LM2597.pdf; ComponentLink3Description: LM2597 Web Page; ComponentLink3URL: http://www.national.com/pf/LM/LM2597.html; ComponentLink4Description: M08A Package Page; ComponentLink4URL: http://www.national.com/packaging/folders/m08a.html
footprint M08A_N (SOIC, 8-Leads, Body 4.9x3.9mm, Pitch 1.27mm, IPC Medium Density)
footprint M08A_L (SOIC, 8-Leads, Body 4.9x3.9mm, Pitch 1.27mm, IPC High Density)
footprint M08A_M (SOIC, 8-Leads, Body 4.9x3.9mm, Pitch 1.27mm, IPC Low Density)
pins: 1 ERR (oc), 2 DELAY (in), 3 B/S (power), 4 FB (in), 5 ~{SD}/SS (in), 6 GND (power), 7 VIN (power), 8 OUT (power)

## LM2597M-12/NOPB
designator U?
SIMPLE SWITCHER® Power Converter 150 kHz 0.5A Step-Down Voltage Regulator, 8-pin Narrow SOIC, Pb-Free; PartNumber: LM2597M-12/NOPB; Manufacturer: National Semiconductor; PackageTopMarking: NSZXTT*2597*M-12; PowerWise: N; High-Reliability: Y; DatasheetVersion: Dec-2000; PackageVersion: revM, May-2009; PackageReference: M08A; PackageDescription: SOIC Narrow, 4.9 x 3.9 x 1.45mm, 8 Lead, 1.27mm Pitch; RoHS: Y; PinCount: 8; CompType: Switcher; Code_JEDEC: MS-012-AA; Code_IPC: SOIC127P600-8; ComponentLink1Description: Manufacturer URL; ComponentLink1URL: http://www.national.com/; ComponentLink2Description: LM2597 Datasheet; ComponentLink2URL: http://www.national.com/ds/LM/LM2597.pdf; ComponentLink3Description: LM2597 Web Page; ComponentLink3URL: http://www.national.com/pf/LM/LM2597.html; ComponentLink4Description: M08A Package Page; ComponentLink4URL: http://www.national.com/packaging/folders/m08a.html
footprint M08A_N (SOIC, 8-Leads, Body 4.9x3.9mm, Pitch 1.27mm, IPC Medium Density)
footprint M08A_L (SOIC, 8-Leads, Body 4.9x3.9mm, Pitch 1.27mm, IPC High Density)
footprint M08A_M (SOIC, 8-Leads, Body 4.9x3.9mm, Pitch 1.27mm, IPC Low Density)
pins: 1 ERR (oc), 2 DELAY (in), 3 B/S (power), 4 FB (in), 5 ~{SD}/SS (in), 6 GND (power), 7 VIN (power), 8 OUT (power)

## LM2597M-ADJ
designator U?
SIMPLE SWITCHER® Power Converter 150 kHz 0.5A Step-Down Voltage Regulator, 8-pin Narrow SOIC; PartNumber: LM2597M-ADJ; Manufacturer: National Semiconductor; PackageTopMarking: NSZXTT*2597*M-ADJ; PowerWise: N; High-Reliability: Y; DatasheetVersion: Dec-2000; PackageVersion: revM, May-2009; PackageReference: M08A; PackageDescription: SOIC Narrow, 4.9 x 3.9 x 1.45mm, 8 Lead, 1.27mm Pitch; RoHS: N; PinCount: 8; CompType: Switcher; Code_JEDEC: MS-012-AA; Code_IPC: SOIC127P600-8; ComponentLink1Description: Manufacturer URL; ComponentLink1URL: http://www.national.com/; ComponentLink2Description: LM2597 Datasheet; ComponentLink2URL: http://www.national.com/ds/LM/LM2597.pdf; ComponentLink3Description: LM2597 Web Page; ComponentLink3URL: http://www.national.com/pf/LM/LM2597.html; ComponentLink4Description: M08A Package Page; ComponentLink4URL: http://www.national.com/packaging/folders/m08a.html
footprint M08A_N (SOIC, 8-Leads, Body 4.9x3.9mm, Pitch 1.27mm, IPC Medium Density)
footprint M08A_L (SOIC, 8-Leads, Body 4.9x3.9mm, Pitch 1.27mm, IPC High Density)
footprint M08A_M (SOIC, 8-Leads, Body 4.9x3.9mm, Pitch 1.27mm, IPC Low Density)
pins: 1 ERR (oc), 2 DELAY (in), 3 B/S (power), 4 FB (in), 5 ~{SD}/SS (in), 6 GND (power), 7 VIN (power), 8 OUT (power)

## LM2597M-ADJ/NOPB
designator U?
SIMPLE SWITCHER® Power Converter 150 kHz 0.5A Step-Down Voltage Regulator, 8-pin Narrow SOIC, Pb-Free; PartNumber: LM2597M-ADJ/NOPB; Manufacturer: National Semiconductor; PackageTopMarking: NSZXTT*2597*M-ADJ; PowerWise: N; High-Reliability: Y; DatasheetVersion: Dec-2000; PackageVersion: revM, May-2009; PackageReference: M08A; PackageDescription: SOIC Narrow, 4.9 x 3.9 x 1.45mm, 8 Lead, 1.27mm Pitch; RoHS: Y; PinCount: 8; CompType: Switcher; Code_JEDEC: MS-012-AA; Code_IPC: SOIC127P600-8; ComponentLink1Description: Manufacturer URL; ComponentLink1URL: http://www.national.com/; ComponentLink2Description: LM2597 Datasheet; ComponentLink2URL: http://www.national.com/ds/LM/LM2597.pdf; ComponentLink3Description: LM2597 Web Page; ComponentLink3URL: http://www.national.com/pf/LM/LM2597.html; ComponentLink4Description: M08A Package Page; ComponentLink4URL: http://www.national.com/packaging/folders/m08a.html
footprint M08A_N (SOIC, 8-Leads, Body 4.9x3.9mm, Pitch 1.27mm, IPC Medium Density)
footprint M08A_L (SOIC, 8-Leads, Body 4.9x3.9mm, Pitch 1.27mm, IPC High Density)
footprint M08A_M (SOIC, 8-Leads, Body 4.9x3.9mm, Pitch 1.27mm, IPC Low Density)
pins: 1 ERR (oc), 2 DELAY (in), 3 B/S (power), 4 FB (in), 5 ~{SD}/SS (in), 6 GND (power), 7 VIN (power), 8 OUT (power)

## LM2597MX-3.3
designator U?
SIMPLE SWITCHER® Power Converter 150 kHz 0.5A Step-Down Voltage Regulator, 8-pin Narrow SOIC; PartNumber: LM2597MX-3.3; Manufacturer: National Semiconductor; PackageTopMarking: NSZXTT*2597*M-3.3; PowerWise: N; High-Reliability: Y; DatasheetVersion: Dec-2000; PackageVersion: revM, May-2009; PackageReference: M08A; PackageDescription: SOIC Narrow, 4.9 x 3.9 x 1.45mm, 8 Lead, 1.27mm Pitch; RoHS: N; PinCount: 8; CompType: Switcher; Code_JEDEC: MS-012-AA; Code_IPC: SOIC127P600-8; ComponentLink1Description: Manufacturer URL; ComponentLink1URL: http://www.national.com/; ComponentLink2Description: LM2597 Datasheet; ComponentLink2URL: http://www.national.com/ds/LM/LM2597.pdf; ComponentLink3Description: LM2597 Web Page; ComponentLink3URL: http://www.national.com/pf/LM/LM2597.html; ComponentLink4Description: M08A Package Page; ComponentLink4URL: http://www.national.com/packaging/folders/m08a.html
footprint M08A_N (SOIC, 8-Leads, Body 4.9x3.9mm, Pitch 1.27mm, IPC Medium Density)
footprint M08A_L (SOIC, 8-Leads, Body 4.9x3.9mm, Pitch 1.27mm, IPC High Density)
footprint M08A_M (SOIC, 8-Leads, Body 4.9x3.9mm, Pitch 1.27mm, IPC Low Density)
pins: 1 ERR (oc), 2 DELAY (in), 3 B/S (power), 4 FB (in), 5 ~{SD}/SS (in), 6 GND (power), 7 VIN (power), 8 OUT (power)

## LM2597MX-5.0
designator U?
SIMPLE SWITCHER® Power Converter 150 kHz 0.5A Step-Down Voltage Regulator, 8-pin Narrow SOIC; PartNumber: LM2597MX-5.0; Manufacturer: National Semiconductor; PackageTopMarking: NSZXTT*2597*M-5.0; PowerWise: N; High-Reliability: Y; DatasheetVersion: Dec-2000; PackageVersion: revM, May-2009; PackageReference: M08A; PackageDescription: SOIC Narrow, 4.9 x 3.9 x 1.45mm, 8 Lead, 1.27mm Pitch; RoHS: N; PinCount: 8; CompType: Switcher; Code_JEDEC: MS-012-AA; Code_IPC: SOIC127P600-8; ComponentLink1Description: Manufacturer URL; ComponentLink1URL: http://www.national.com/; ComponentLink2Description: LM2597 Datasheet; ComponentLink2URL: http://www.national.com/ds/LM/LM2597.pdf; ComponentLink3Description: LM2597 Web Page; ComponentLink3URL: http://www.national.com/pf/LM/LM2597.html; ComponentLink4Description: M08A Package Page; ComponentLink4URL: http://www.national.com/packaging/folders/m08a.html
footprint M08A_N (SOIC, 8-Leads, Body 4.9x3.9mm, Pitch 1.27mm, IPC Medium Density)
footprint M08A_L (SOIC, 8-Leads, Body 4.9x3.9mm, Pitch 1.27mm, IPC High Density)
footprint M08A_M (SOIC, 8-Leads, Body 4.9x3.9mm, Pitch 1.27mm, IPC Low Density)
pins: 1 ERR (oc), 2 DELAY (in), 3 B/S (power), 4 FB (in), 5 ~{SD}/SS (in), 6 GND (power), 7 VIN (power), 8 OUT (power)

## LM2597MX-12
designator U?
SIMPLE SWITCHER® Power Converter 150 kHz 0.5A Step-Down Voltage Regulator, 8-pin Narrow SOIC; PartNumber: LM2597MX-12; Manufacturer: National Semiconductor; PackageTopMarking: NSZXTT*2597*M-12; PowerWise: N; High-Reliability: Y; DatasheetVersion: Dec-2000; PackageVersion: revM, May-2009; PackageReference: M08A; PackageDescription: SOIC Narrow, 4.9 x 3.9 x 1.45mm, 8 Lead, 1.27mm Pitch; RoHS: N; PinCount: 8; CompType: Switcher; Code_JEDEC: MS-012-AA; Code_IPC: SOIC127P600-8; ComponentLink1Description: Manufacturer URL; ComponentLink1URL: http://www.national.com/; ComponentLink2Description: LM2597 Datasheet; ComponentLink2URL: http://www.national.com/ds/LM/LM2597.pdf; ComponentLink3Description: LM2597 Web Page; ComponentLink3URL: http://www.national.com/pf/LM/LM2597.html; ComponentLink4Description: M08A Package Page; ComponentLink4URL: http://www.national.com/packaging/folders/m08a.html
footprint M08A_N (SOIC, 8-Leads, Body 4.9x3.9mm, Pitch 1.27mm, IPC Medium Density)
footprint M08A_L (SOIC, 8-Leads, Body 4.9x3.9mm, Pitch 1.27mm, IPC High Density)
footprint M08A_M (SOIC, 8-Leads, Body 4.9x3.9mm, Pitch 1.27mm, IPC Low Density)
pins: 1 ERR (oc), 2 DELAY (in), 3 B/S (power), 4 FB (in), 5 ~{SD}/SS (in), 6 GND (power), 7 VIN (power), 8 OUT (power)

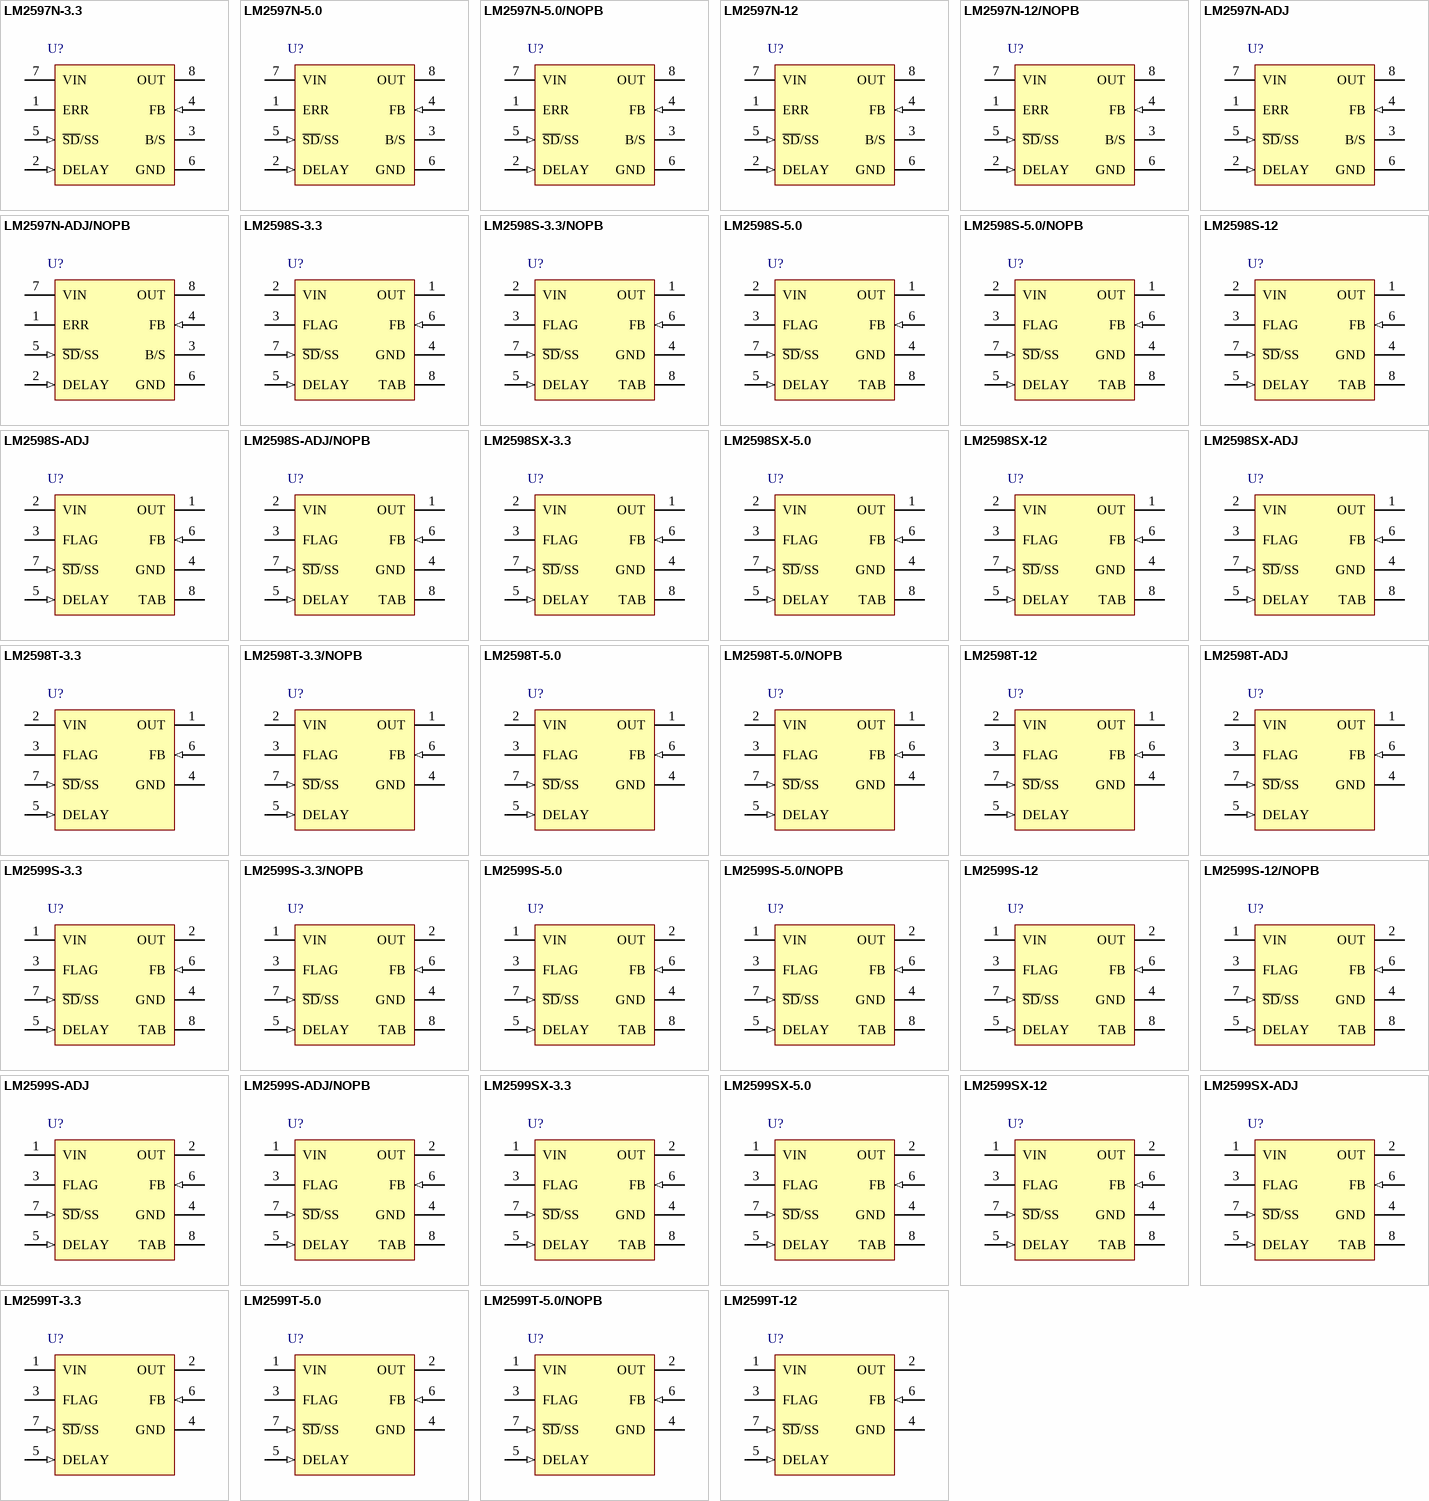
[diagram p12: symbols LM2597N-3.3 to LM2599T-12]

## LM2597N-3.3
designator U?
SIMPLE SWITCHER® Power Converter 150 kHz 0.5A Step-Down Voltage Regulator, 8-pin MDIP; PartNumber: LM2597N-3.3; Manufacturer: National Semiconductor; PackageTopMarking: NSUZXYTTE#*LM2597N*-3.3 P+; PowerWise: N; High-Reliability: Y; DatasheetVersion: Dec-2000; PackageVersion: revG, May-2006; PackageReference: N08E; PackageDescription: MDIP, .365 x .250 x .130in, 8 Lead, .100in Pitch; RoHS: N; PinCount: 8; CompType: Switcher; Code_JEDEC: MS-001-BA; ComponentLink1Description: Manufacturer URL; ComponentLink1URL: http://www.national.com/; ComponentLink2Description: LM2597 Datasheet; ComponentLink2URL: http://www.national.com/ds/LM/LM2597.pdf; ComponentLink3Description: LM2597 Web Page; ComponentLink3URL: http://www.national.com/pf/LM/LM2597.html; ComponentLink4Description: N08E Package Page; ComponentLink4URL: http://www.national.com/packaging/folders/n08e.html
footprint N08E (DIP, 8-Leads, Row Spacing 7.62mm, Pitch 2.54mm, Body 9.91x6.35mm)
pins: 1 ERR (oc), 2 DELAY (in), 3 B/S (power), 4 FB (in), 5 ~{SD}/SS (in), 6 GND (power), 7 VIN (power), 8 OUT (power)

## LM2597N-5.0
designator U?
SIMPLE SWITCHER® Power Converter 150 kHz 0.5A Step-Down Voltage Regulator, 8-pin MDIP; PartNumber: LM2597N-5.0; Manufacturer: National Semiconductor; PackageTopMarking: NSUZXYTTE#*LM2597N*-5.0 P+; PowerWise: N; High-Reliability: Y; DatasheetVersion: Dec-2000; PackageVersion: revG, May-2006; PackageReference: N08E; PackageDescription: MDIP, .365 x .250 x .130in, 8 Lead, .100in Pitch; RoHS: N; PinCount: 8; CompType: Switcher; Code_JEDEC: MS-001-BA; ComponentLink1Description: Manufacturer URL; ComponentLink1URL: http://www.national.com/; ComponentLink2Description: LM2597 Datasheet; ComponentLink2URL: http://www.national.com/ds/LM/LM2597.pdf; ComponentLink3Description: LM2597 Web Page; ComponentLink3URL: http://www.national.com/pf/LM/LM2597.html; ComponentLink4Description: N08E Package Page; ComponentLink4URL: http://www.national.com/packaging/folders/n08e.html
footprint N08E (DIP, 8-Leads, Row Spacing 7.62mm, Pitch 2.54mm, Body 9.91x6.35mm)
pins: 1 ERR (oc), 2 DELAY (in), 3 B/S (power), 4 FB (in), 5 ~{SD}/SS (in), 6 GND (power), 7 VIN (power), 8 OUT (power)